# Altium footprint library Components.PcbLib: 20 footprints (part 2 of 2)
Each footprint in its own frame and in the unit in brackets; x right, y up, seen from the top. Pads: shape width x height; smd on the part's side, far side on the other; paste and mask are expansions set on the pad; w line width, h text height; cw(c..) or ccw(c..) is an arc to the next point about the centre after c.
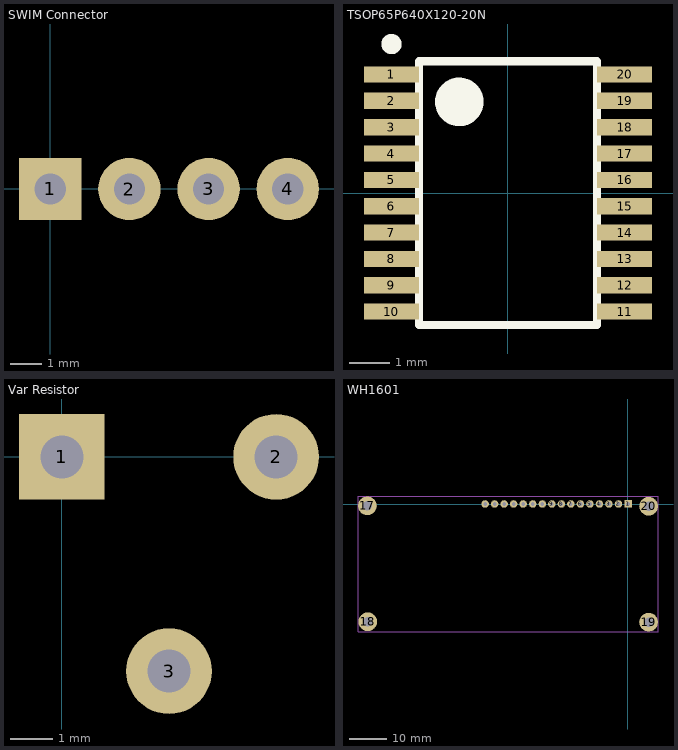
[diagram p1: the footprints below, top view; thin cyan lines are the x and y axes]

## SWIM Connector [mm]
height 8
pads (4):
  rect 2x2 hole 1 unplated: 1(0,0)
  round 2 hole 1 unplated: 2(2.54,0) 3(5.08,0) 4(7.62,0)
3D body "SinglePinHeader.step": height 8.99, standoff -1.81, extent -1.27,-1.27 1.27,1.27
3D body "SinglePinHeader.step": height 8.99, standoff -1.81, extent 1.27,-1.27 3.81,1.27
3D body "SinglePinHeader.step": height 8.99, standoff -1.81, extent 3.81,-1.27 6.35,1.27
3D body "SinglePinHeader.step": height 8.99, standoff -1.81, extent 6.35,-1.27 8.89,1.27

## TSOP65P640X120-20N [mm] "TSOP, 20-Leads, Body 6,50x4,40mm, Pitch 0,65mm, IPC Medium Density"
height 1.2
pads (20):
  rect 1.35x0.4 smd: 1(-2.875,2.925) 2(-2.875,2.275) 3(-2.875,1.625) 4(-2.875,0.975) 5(-2.875,0.325) 6(-2.875,-0.325) 7(-2.875,-0.975) 8(-2.875,-1.625) 9(-2.875,-2.275) 10(-2.875,-2.925) 11(2.875,-2.925) 12(2.875,-2.275) 13(2.875,-1.625) 14(2.875,-0.975) 15(2.875,-0.325) 16(2.875,0.325) 17(2.875,0.975) 18(2.875,1.625) 19(2.875,2.275) 20(2.875,2.925)
Top Overlay:
  circle w0.25: c-2.875,3.675 r0.125
  circle w0.6: c-1.2,2.25 r0.3
  lines w0.2: -2.2,-3.25 -2.2,3.25 2.2,3.25 2.2,-3.25 -2.2,-3.25
3D body "TSOP65P640X120-20N.step": height 1.2, standoff 0, extent -3.2,-3.3 3.2,3.3

## Var Resistor [mm]
pads (3):
  rect 2x2 hole 1 unplated: 1(0,0)
  round 2 hole 1 unplated: 2(5,0) 3(2.5,-5)
3D body "Potentiometer.STEP": height 7.5, standoff -3.4, extent -0.75,-5.875 5.75,1.175

## WH1601 [mm]
pads (20):
  rect 2x2 hole 1 unplated: 1(0,0)
  round 2 hole 1 unplated: 2(-2.54,0) 3(-5.08,0) 4(-7.62,0) 5(-10.16,0) 6(-12.7,0) 7(-15.24,0) 8(-17.78,0) 9(-20.32,0) 10(-22.86,0) 11(-25.4,0) 12(-27.94,0) 13(-30.48,0) 14(-33.02,0) 15(-35.56,0) 16(-38.1,0)
  round 5 hole 2.5 unplated: 17(-69.5,-0.5) 18(-69.4,-31.4) 19(5.5,-31.5) 20(5.5,-0.6)
Mechanical 1:
  lines w0.1: -72,-34 -72,-11.5 -72,2 -64,2 -25.5,2 8,2 8,-34 -72,-34
3D body "SinglePinHeader.step": height 7.99, standoff -2.81, extent -1.27,-1.27 1.27,1.27
3D body "SinglePinHeader.step": height 7.99, standoff -2.81, extent -3.81,-1.27 -1.27,1.27
3D body "SinglePinHeader.step": height 7.99, standoff -2.81, extent -6.35,-1.27 -3.81,1.27
3D body "SinglePinHeader.step": height 7.99, standoff -2.81, extent -8.89,-1.27 -6.35,1.27
3D body "SinglePinHeader.step": height 7.99, standoff -2.81, extent -11.43,-1.27 -8.89,1.27
3D body "SinglePinHeader.step": height 7.99, standoff -2.81, extent -13.97,-1.27 -11.43,1.27
3D body "SinglePinHeader.step": height 7.99, standoff -2.81, extent -16.51,-1.27 -13.97,1.27
3D body "SinglePinHeader.step": height 7.99, standoff -2.81, extent -19.05,-1.27 -16.51,1.27
3D body "SinglePinHeader.step": height 7.99, standoff -2.81, extent -21.59,-1.27 -19.05,1.27
3D body "SinglePinHeader.step": height 7.99, standoff -2.81, extent -24.13,-1.27 -21.59,1.27
3D body "SinglePinHeader.step": height 7.99, standoff -2.81, extent -26.67,-1.27 -24.13,1.27
3D body "SinglePinHeader.step": height 7.99, standoff -2.81, extent -29.21,-1.27 -26.67,1.27
3D body "SinglePinHeader.step": height 7.99, standoff -2.81, extent -31.75,-1.27 -29.21,1.27
3D body "SinglePinHeader.step": height 7.99, standoff -2.81, extent -34.29,-1.27 -31.75,1.27
3D body "SinglePinHeader.step": height 7.99, standoff -2.81, extent -36.83,-1.27 -34.29,1.27
3D body "SinglePinHeader.step": height 7.99, standoff -2.81, extent -39.37,-1.27 -36.83,1.27
3D body: height 6.5, standoff 1.5, extent -71.9,-33.899 -66.9,-28.9
3D body: height 6.5, standoff 1.5, extent -72,-2.999 -67,1.999
3D body: height 6.5, standoff 1.5, extent 3,-3.099 8,1.9
3D body: height 6.5, standoff 1.5, extent 3,-33.999 8,-29.001